# EAGLE library part PCF85063ATL/1,118 (library SparkFun-Clocks)
NXP PCF85063ATL/1,118 - Temperature compensated RTC Provides year, month, day, weekday, hours, minutes, and seconds based on a 32.768 kHz quartz crystal Clock operating voltage: 0.9 V to 5.5 V Low current; typical 0.22uA at VDD = 3.3 V and Tamb = 25C 400 kHz two-line I2C-bus interface (at VDD = 1.8 V to 5.5 V) Programmable clock output for peripheral devices (32.768 kHz, 16.384 kHz, 8.192 kHz, 4.096 kHz, 2.048 kHz, 1.024 kHz, and 1 Hz) Selectable integrated oscillator load capacitors for CL = 7 pF or CL = 12.5 pF Alarm function Countdown timer Minute and half minute interrupt Oscillator stop detection function Internal Power-On Reset (POR) Programmable offset register for frequency adjustment
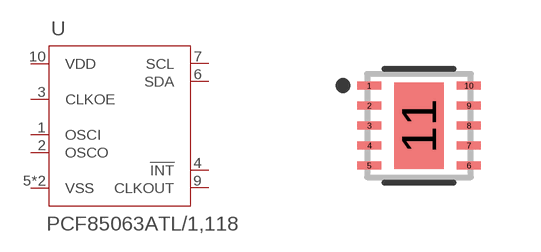
[diagram p0: symbol with the pads of 10-DFN(2.6X2.6); footprint 10-DFN(2.6X2.6)]

Designator prefix U

## PCF85063ATL/1,118 (PROD_ID: IC-15415; VALUE: PCF85063ATL/1,118)  [10-DFN(2.6X2.6)]
1  OSCI  in
2  OSCO  out
3  CLKOE  in
4  !INT  out
5  VSS  pwr
6  SDA
7  SCL  in
9  CLKOUT  out
10  VDD  pwr
11  VSS  pwr

## Footprint 10-DFN(2.6X2.6) (pad centres in mm)
smd 0.61 x 0.203: 1 -1.245,1; 2 -1.245,0.5; 3 -1.245,0; 4 -1.245,-0.5; 5 -1.245,-1; 6 1.245,-1; 7 1.245,-0.5; 8 1.245,0; 9 1.245,0.5; 10 1.245,1
smd 1.245 x 2.159: 11 0,0